# Altium integrated library ECS-50-18-5PLX-AGN-TR.IntLib: 1 symbol
Pins are listed as number, name and electrical type; pins without a type are passive.

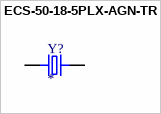
[diagram p0: symbol ECS-50-18-5PLX-AGN-TR]

## ECS-50-18-5PLX-AGN-TR
designator Y?
MP: ECS-50-18-5PLX-AGN-TR; Package: None; Price: None; Value: *; Availability: Unavailable
footprint XTAL_ECS-50-18-5PLX-AGN-TR
pins: 1, 2